# EAGLE library part 43650-1021 (library 43650-1021)
Micro-Fit 3.0 Vertical Header, 3.00mm Pitch, Single Row, 10 Circuits, with PCB Press-fit Metal Retention Clip Source: Datasheet <https://www.molex.com/pdm_docs/sd/436500221_sd.pdf>
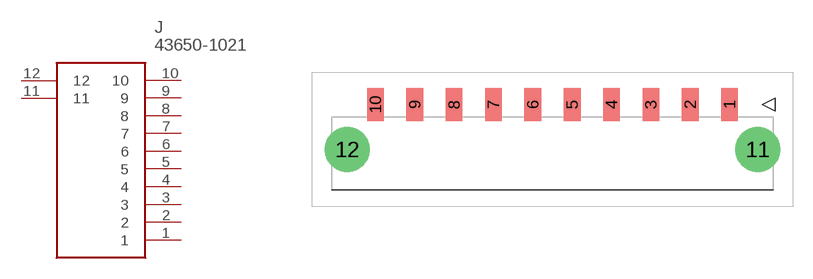
[diagram p0: symbol with the pads of 43650-10YY_212223; footprint 43650-10YY_212223]

Designator prefix J

## 43650-1021 (Description: Micro-Fit 3.0 Vertical Header, 3.00mm Pitch, Single Row, 10 Circuits, with PCB Press-fit Metal Retention Clip; Height: 9.9mm; Manufacturer_Name: Molex; Manufacturer_Part_Number: 43650-1021; Mouser_Part_Number: 538-43650-1021; Mouser_Price-Stock: https://www.mouser.co.uk/ProductDetail/Molex/43650-1021?qs=H%2FGT2mb2V7axR10lHWY%252B%2FQ%3D%3D)  [43650-10YY_212223]
1  1
2  2
3  3
4  4
5  5
6  6
7  7
8  8
9  9
10  10
11  11
12  12

## Footprint 43650-10YY_212223 (pad centres in mm)
43650-10YY_212223
smd 1.27 x 2.54: 1 13.5,0; 2 10.5,0; 3 7.5,0; 4 4.5,0; 5 1.5,0; 6 -1.5,0; 7 -4.5,0; 8 -7.5,0; 9 -10.5,0; 10 -13.5,0
drill 2.41 pad 2.91: 11 15.65,-3.43; 12 -15.65,-3.43